# Altium integrated library Linear Technology Power Management LED Driver ICs.IntLib: 490 symbols (part 13 of 48)
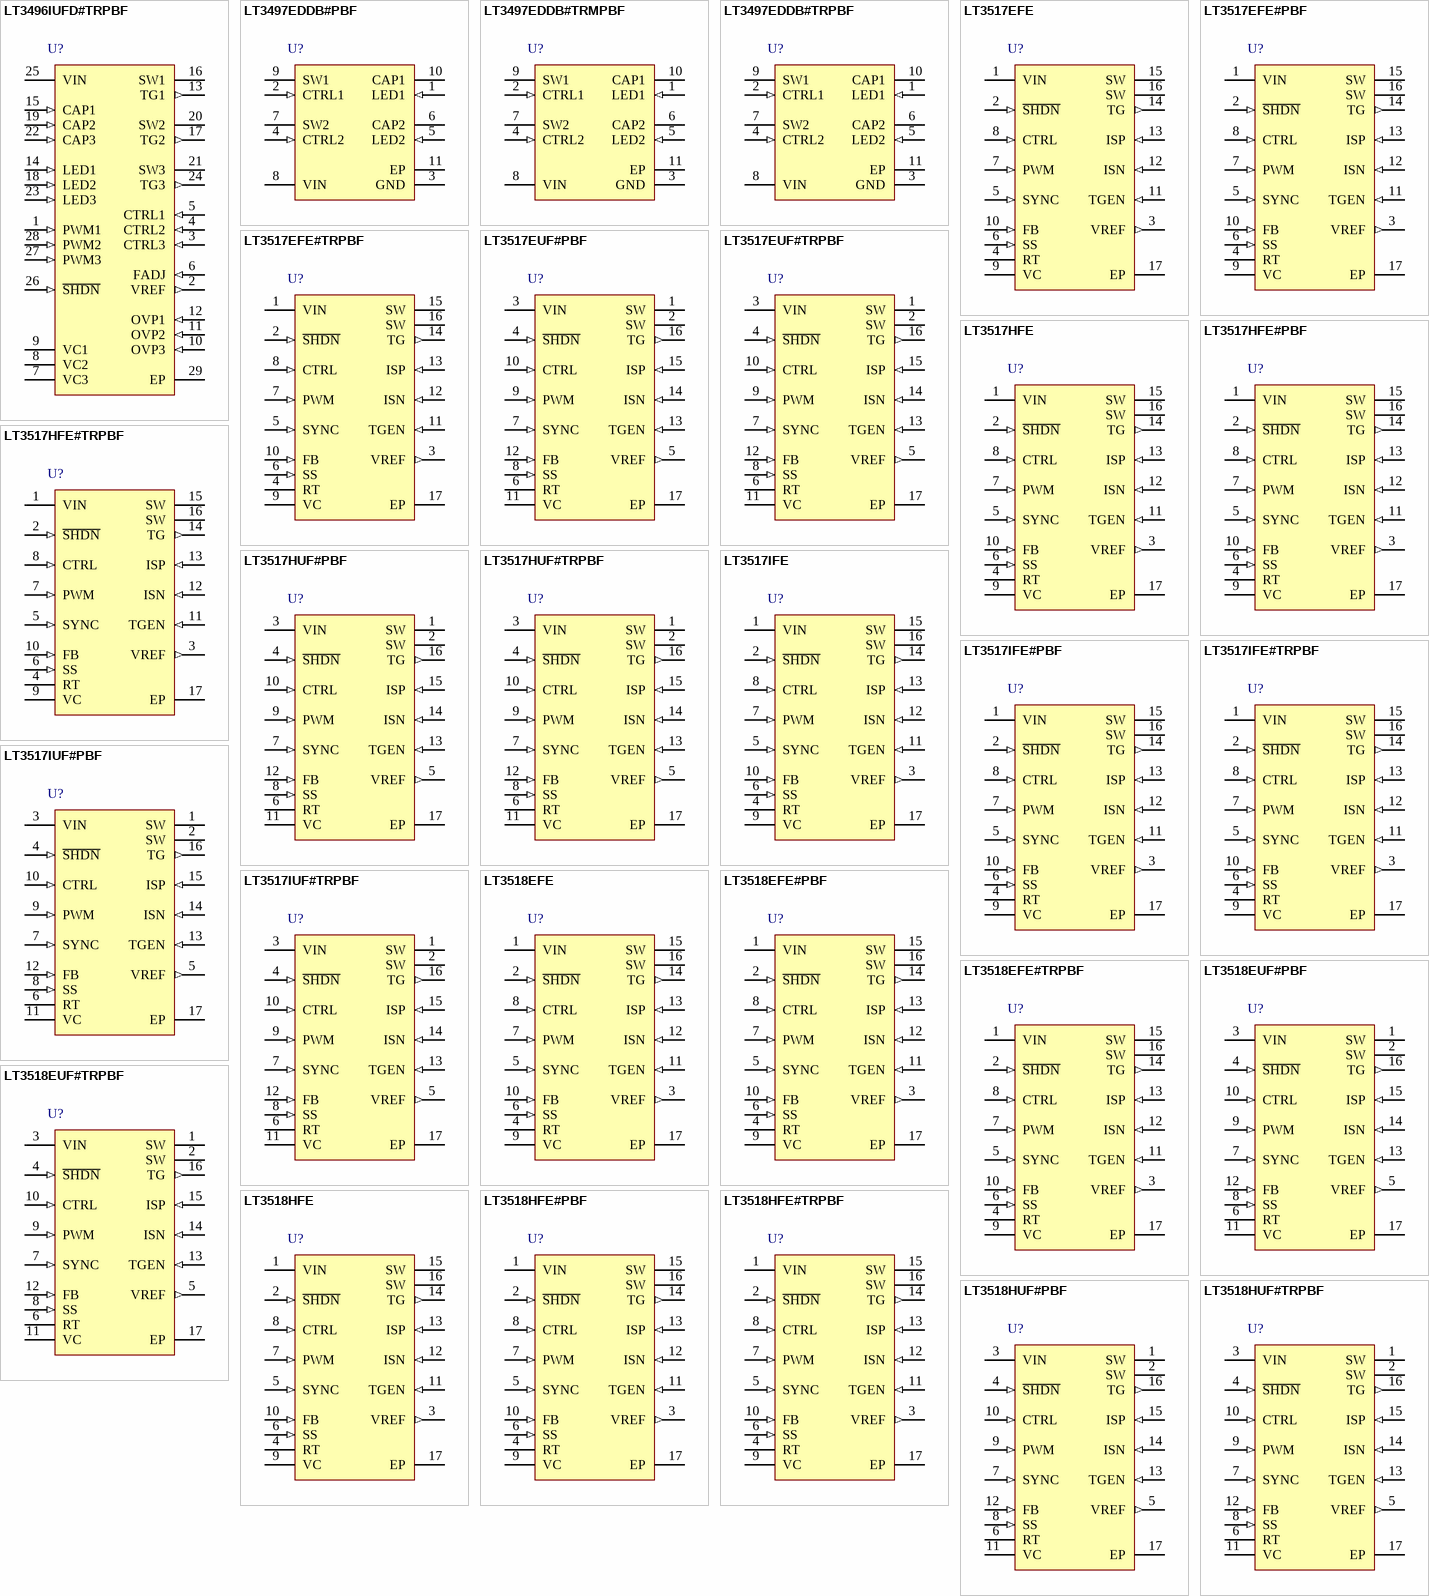
[diagram p32: symbols LT3496IUFD#TRPBF to LT3518HUF#TRPBF]

## LT3497EDDB#PBF
designator U?
Dual Full Function White LED Driver with Integrated Schottky Diode, 2.5 to 10 V Vin, 35 V Vout MAX, 10-pin SON (DDB10), -40 to 85 degC, Pb-Free; Manufacturer: Linear Technology; PartNumber: LT3497EDDB#PBF; Topology: Boost, LED Driver; Vin Min(V): 2.5; PackageVersion: Rev. Ø, 06/2010; PackageReference: DDB10; PackageDescription: 10-Pin Plastic DFN, Body 3 x 2 mm, Pitch 0.5 mm; Supplier 1: Farnell; Supplier Part Number 1: 2308211; Supplier 2: Newark; Supplier Part Number 2: 78T4022; RoHS: TRUE; Mounting Technology: Surface Mount; Code_JEDEC: MO-229; ComponentLink1Description: Manufacturer URL; ComponentLink1URL: http://www.linear.com/; ComponentLink2Description: Datasheet; ComponentLink2URL: http://cds.linear.com/docs/en/datasheet/3497f.pdf; ComponentLink3Description: Package Specification; ComponentLink3URL: http://cds.linear.com/docs/en/packaging/DFN_10_05-08-1722.pdf
footprint LT-DDB-10_V (SON, 10-Leads, Body 3x2mm, Pitch 0.5mm, Thermal Pad 2.39x0.64mm)
pins: 1 LED1 (in) "Connection point for the anode of the first LED of the first set of LEDs and the sense resistor (RSENSE1). The LED current can be programmed by: ILED1=200mV/RSENSE1.", 2 CTRL1 (in) "Dimming and Shutdown Pin. Connect CTRL1 below 50mV to disable converter 1. As the pin voltage is ramped from 0V to 1.5V, the LED current ramps from 0 to (ILED1 = 200mV/RSENSE1). The CTRL1 pin must not be left foating.", 3 GND (power) "Connect the GND pin to the PCB system ground plane.", 4 CTRL2 (in) "Dimming and Shutdown Pin. Connect CTRL2 below 50mV to disable converter 2. As the pin voltage is ramped from 0V to 1.5V, the LED current ramps from 0 to (ILED2 = 200mV/RSENSE2). The CTRL2 pin must not be left foating.", 5 LED2 (in) "Connection point for the anode of the first LED of the second set of LEDs and the sense resistor (RSENSE2). The LED current can be programmed by:ILED2=200mV/RSENSE2.", 6 CAP2 (power) "Output of Converter 2. This pin is connected to the cathode of internal Schottky diode 2. Connect the output capacitor to this pin and the sense resistor (RSENSE2) from this pin to LED2 pin.", 7 SW2 "Switch Pin. Minimize trace area at this pin to minimize EMI. Connect the inductor at this pin.", 8 VIN (power) "Input Supply Pin. This pin must be locally bypassed.", 9 SW1 "Switch Pin. Minimize trace area at this pin to minimize EMI. Connect the inductor at this pin.", 10 CAP1 (power) "Output of Converter 1. This pin is connected to the cathode of internal Schottky diode 1. Connect the output capacitor to this pin and the sense resistor (RSENSE1) from this pin to LED1 pin.", 11 EP (power) "Ground. Must be soldered to PCB."

## LT3497EDDB#TRMPBF
designator U?
Dual Full Function White LED Driver with Integrated Schottky Diode, 2.5 to 10 V Vin, 35 V Vout MAX, 10-pin SON (DDB10), -40 to 85 degC, Pb-Free, Mini Tape and Reel; Manufacturer: Linear Technology; PartNumber: LT3497EDDB#TRMPBF; Topology: Boost, LED Driver; Vin Min(V): 2.5; PackageVersion: Rev. Ø, 06/2010; PackageReference: DDB10; PackageDescription: 10-Pin Plastic DFN, Body 3 x 2 mm, Pitch 0.5 mm; Supplier 1: Digi-Key; Supplier Part Number 1: LT3497EDDB#TRMPBFTR-ND; Supplier 2: Digi-Key; Supplier Part Number 2: LT3497EDDB#TRMPBFCT-ND; Supplier 3: Digi-Key; Supplier Part Number 3: LT3497EDDB#TRMPBFDKR-ND; Supplier 4: Farnell; Supplier Part Number 4: 1715222; Supplier 5: Newark; Supplier Part Number 5: 88M1943; Packing: Mini Tape and Reel; RoHS: TRUE; Mounting Technology: Surface Mount; Code_JEDEC: MO-229; ComponentLink1Description: Manufacturer URL; ComponentLink1URL: http://www.linear.com/; ComponentLink2Description: Datasheet; ComponentLink2URL: http://cds.linear.com/docs/en/datasheet/3497f.pdf; ComponentLink3Description: Package Specification; ComponentLink3URL: http://cds.linear.com/docs/en/packaging/DFN_10_05-08-1722.pdf
footprint LT-DDB-10_V (SON, 10-Leads, Body 3x2mm, Pitch 0.5mm, Thermal Pad 2.39x0.64mm)
pins: 1 LED1 (in) "Connection point for the anode of the first LED of the first set of LEDs and the sense resistor (RSENSE1). The LED current can be programmed by: ILED1=200mV/RSENSE1.", 2 CTRL1 (in) "Dimming and Shutdown Pin. Connect CTRL1 below 50mV to disable converter 1. As the pin voltage is ramped from 0V to 1.5V, the LED current ramps from 0 to (ILED1 = 200mV/RSENSE1). The CTRL1 pin must not be left foating.", 3 GND (power) "Connect the GND pin to the PCB system ground plane.", 4 CTRL2 (in) "Dimming and Shutdown Pin. Connect CTRL2 below 50mV to disable converter 2. As the pin voltage is ramped from 0V to 1.5V, the LED current ramps from 0 to (ILED2 = 200mV/RSENSE2). The CTRL2 pin must not be left foating.", 5 LED2 (in) "Connection point for the anode of the first LED of the second set of LEDs and the sense resistor (RSENSE2). The LED current can be programmed by:ILED2=200mV/RSENSE2.", 6 CAP2 (power) "Output of Converter 2. This pin is connected to the cathode of internal Schottky diode 2. Connect the output capacitor to this pin and the sense resistor (RSENSE2) from this pin to LED2 pin.", 7 SW2 "Switch Pin. Minimize trace area at this pin to minimize EMI. Connect the inductor at this pin.", 8 VIN (power) "Input Supply Pin. This pin must be locally bypassed.", 9 SW1 "Switch Pin. Minimize trace area at this pin to minimize EMI. Connect the inductor at this pin.", 10 CAP1 (power) "Output of Converter 1. This pin is connected to the cathode of internal Schottky diode 1. Connect the output capacitor to this pin and the sense resistor (RSENSE1) from this pin to LED1 pin.", 11 EP (power) "Ground. Must be soldered to PCB."

## LT3497EDDB#TRPBF
designator U?
Dual Full Function White LED Driver with Integrated Schottky Diode, 2.5 to 10 V Vin, 35 V Vout MAX, 10-pin SON (DDB10), -40 to 85 degC, Pb-Free, Tape and Reel; Manufacturer: Linear Technology; PartNumber: LT3497EDDB#TRPBF; Topology: Boost, LED Driver; Vin Min(V): 2.5; PackageVersion: Rev. Ø, 06/2010; PackageReference: DDB10; PackageDescription: 10-Pin Plastic DFN, Body 3 x 2 mm, Pitch 0.5 mm; Supplier 1: Digi-Key; Supplier Part Number 1: LT3497EDDB#TRPBF-ND; Packing: Tape and Reel; RoHS: TRUE; Mounting Technology: Surface Mount; Code_JEDEC: MO-229; ComponentLink1Description: Manufacturer URL; ComponentLink1URL: http://www.linear.com/; ComponentLink2Description: Datasheet; ComponentLink2URL: http://cds.linear.com/docs/en/datasheet/3497f.pdf; ComponentLink3Description: Package Specification; ComponentLink3URL: http://cds.linear.com/docs/en/packaging/DFN_10_05-08-1722.pdf
footprint LT-DDB-10_V (SON, 10-Leads, Body 3x2mm, Pitch 0.5mm, Thermal Pad 2.39x0.64mm)
pins: 1 LED1 (in) "Connection point for the anode of the first LED of the first set of LEDs and the sense resistor (RSENSE1). The LED current can be programmed by: ILED1=200mV/RSENSE1.", 2 CTRL1 (in) "Dimming and Shutdown Pin. Connect CTRL1 below 50mV to disable converter 1. As the pin voltage is ramped from 0V to 1.5V, the LED current ramps from 0 to (ILED1 = 200mV/RSENSE1). The CTRL1 pin must not be left foating.", 3 GND (power) "Connect the GND pin to the PCB system ground plane.", 4 CTRL2 (in) "Dimming and Shutdown Pin. Connect CTRL2 below 50mV to disable converter 2. As the pin voltage is ramped from 0V to 1.5V, the LED current ramps from 0 to (ILED2 = 200mV/RSENSE2). The CTRL2 pin must not be left foating.", 5 LED2 (in) "Connection point for the anode of the first LED of the second set of LEDs and the sense resistor (RSENSE2). The LED current can be programmed by:ILED2=200mV/RSENSE2.", 6 CAP2 (power) "Output of Converter 2. This pin is connected to the cathode of internal Schottky diode 2. Connect the output capacitor to this pin and the sense resistor (RSENSE2) from this pin to LED2 pin.", 7 SW2 "Switch Pin. Minimize trace area at this pin to minimize EMI. Connect the inductor at this pin.", 8 VIN (power) "Input Supply Pin. This pin must be locally bypassed.", 9 SW1 "Switch Pin. Minimize trace area at this pin to minimize EMI. Connect the inductor at this pin.", 10 CAP1 (power) "Output of Converter 1. This pin is connected to the cathode of internal Schottky diode 1. Connect the output capacitor to this pin and the sense resistor (RSENSE1) from this pin to LED1 pin.", 11 EP (power) "Ground. Must be soldered to PCB."

## LT3517EFE
designator U?
Full-Featured LED Driver with 1.5 A Switch Current, 3 to 30 V Vin, 40 V Vout MAX, 16-pin SOP (FE-16-EPV-BA), -40 to 125 degC; Manufacturer: Linear Technology; PartNumber: LT3517EFE; Topology: Buck, Boost, Buck-Boost, LED Driver; Vin Min(V): 3; DatasheetVersion: Rev. G; PackageVersion: Rev. I, 05/2011; PackageReference: FE-16; PackageDescription: 16-Pin Plastic TSSOP, Body 5 x 4.4 mm, Pitch 0.65 mm; RoHS: FALSE; Mounting Technology: Surface Mount; ComponentLink1Description: Manufacturer URL; ComponentLink1URL: http://www.linear.com/; ComponentLink2Description: Datasheet; ComponentLink2URL: http://cds.linear.com/docs/en/datasheet/3517fg.pdf; ComponentLink3Description: Package Specification; ComponentLink3URL: http://cds.linear.com/docs/en/packaging/05081663_J_FE16(BA).pdf
footprint LT-FE-16-EPV-BA_N (SOP, 16-Leads, Body 5x4.4mm, Pitch 0.65mm, Thermal Pad 2.74x2.74mm, IPC Medium Density)
footprint LT-FE-16-EPV-BA_L (SOP, 16-Leads, Body 5x4.4mm, Pitch 0.65mm, Thermal Pad 2.74x2.74mm, IPC High Density)
footprint LT-FE-16-EPV-BA_M (SOP, 16-Leads, Body 5x4.4mm, Pitch 0.65mm, Thermal Pad 2.74x2.74mm, IPC Low Density)
pins: 1 VIN (power) "Input Supply Pin. Must be locally bypassed.", 2 ~{SHDN} (in) "Shutdown Pin. Tie to 1.5V or higher to enable device or 0.4V or less to disable device.", 3 VREF (out) "Reference Output Pin. This pin can supply up to 100uA.", 4 RT "Switching Frequency Adjustment Pin. Set switching frequency using a resistor to GND (see Typical Performance Characteristics for values). For SYNC function, choose the resistor to program a frequency 20% slower than the SYNC (See Datasheet)", 5 SYNC (in) "Frequency Synchronization Pin. Tie an external clock signal here. RT resistor should be chosen to program a switching frequency 20% slower than SYNC pulse frequency. Synchronization (power switch turn-on) occurs a fixed (See Datasheet)", 6 SS (in) "Soft-Start Pin. Place a soft-start capacitor here. Leave the pin open if not in use.", 7 PWM (in) "Pulse Width Modulated Input Pin. Signal low turns off channel, disables the main switch and makes the TG pin high. Tie the PWM pin to S\H\D\N\ pin if not used. There is an equivalent 50k resistor from PWM pin to ground (See Datasheet)", 8 CTRL (in) "LED Current Adjustment Pin. Sets voltage across sense resistor between ISP and ISN. Connect directly to VREF for full-scale threshold of 100mV, or use signal values between GND and 1V to modulate LED current. Tie the CTRL (See Datasheet)", 9 VC "gm Error Amplifier Output Pin. Stabilize the loop with an RC network or compensating C.", 10 FB (in) "Voltage Loop Feedback Pin. Works as overvoltage protection for LED drivers. If FB is higher than 1V, the main switch is turned off.", 11 TGEN (in) "Top Gate Enable Input Pin. Tie to 1.5V or higher to enable the PMOS driver function. Tie the TGEN pin to ground if TG function is not used. There is an equivalent 40k resistor from TGEN pin to ground internally.", 12 ISN (in) "Current Sense (-) Pin. The inverting input to the current sense amplifier.", 13 ISP (in) "Current Sense (+) Pin. The noninverting input to the current sense amplifier. Also serves as positive rail for TG pin driver.", 14 TG (out) "Top Gate Driver Output. An inverted PWM signal drives series PMOS device between VISP and (VISP - 7V). An internal 7V clamp protects the VISP PMOS gate. Leave TG unconnected if not used.", 15 SW (power) "Switch Pin. Minimize trace at this pin to reduce EMI.", 16 SW (power) "Switch Pin. Minimize trace at this pin to reduce EMI.", 17 EP (power) "Exposed Pad. Solder paddle directly to ground plane."

## LT3517EFE#PBF
designator U?
Full-Featured LED Driver with 1.5 A Switch Current, 3 to 30 V Vin, 40 V Vout MAX, 16-pin SOP (FE-16-EPV-BA), -40 to 125 degC, Pb-Free; Manufacturer: Linear Technology; PartNumber: LT3517EFE#PBF; Topology: Buck, Boost, Buck-Boost, LED Driver; Vin Min(V): 3; DatasheetVersion: Rev. G; PackageVersion: Rev. I, 05/2011; PackageReference: FE-16; PackageDescription: 16-Pin Plastic TSSOP, Body 5 x 4.4 mm, Pitch 0.65 mm; Supplier 1: Digi-Key; Supplier Part Number 1: LT3517EFE#PBF-ND; Supplier 2: Farnell; Supplier Part Number 2: 2293070; Supplier 3: Newark; Supplier Part Number 3: 75M4735; RoHS: TRUE; Mounting Technology: Surface Mount; ComponentLink1Description: Manufacturer URL; ComponentLink1URL: http://www.linear.com/; ComponentLink2Description: Datasheet; ComponentLink2URL: http://cds.linear.com/docs/en/datasheet/3517fg.pdf; ComponentLink3Description: Package Specification; ComponentLink3URL: http://cds.linear.com/docs/en/packaging/05081663_J_FE16(BA).pdf
footprint LT-FE-16-EPV-BA_N (SOP, 16-Leads, Body 5x4.4mm, Pitch 0.65mm, Thermal Pad 2.74x2.74mm, IPC Medium Density)
footprint LT-FE-16-EPV-BA_L (SOP, 16-Leads, Body 5x4.4mm, Pitch 0.65mm, Thermal Pad 2.74x2.74mm, IPC High Density)
footprint LT-FE-16-EPV-BA_M (SOP, 16-Leads, Body 5x4.4mm, Pitch 0.65mm, Thermal Pad 2.74x2.74mm, IPC Low Density)
pins: 1 VIN (power) "Input Supply Pin. Must be locally bypassed.", 2 ~{SHDN} (in) "Shutdown Pin. Tie to 1.5V or higher to enable device or 0.4V or less to disable device.", 3 VREF (out) "Reference Output Pin. This pin can supply up to 100uA.", 4 RT "Switching Frequency Adjustment Pin. Set switching frequency using a resistor to GND (see Typical Performance Characteristics for values). For SYNC function, choose the resistor to program a frequency 20% slower than the SYNC (See Datasheet)", 5 SYNC (in) "Frequency Synchronization Pin. Tie an external clock signal here. RT resistor should be chosen to program a switching frequency 20% slower than SYNC pulse frequency. Synchronization (power switch turn-on) occurs a fixed (See Datasheet)", 6 SS (in) "Soft-Start Pin. Place a soft-start capacitor here. Leave the pin open if not in use.", 7 PWM (in) "Pulse Width Modulated Input Pin. Signal low turns off channel, disables the main switch and makes the TG pin high. Tie the PWM pin to S\H\D\N\ pin if not used. There is an equivalent 50k resistor from PWM pin to ground (See Datasheet)", 8 CTRL (in) "LED Current Adjustment Pin. Sets voltage across sense resistor between ISP and ISN. Connect directly to VREF for full-scale threshold of 100mV, or use signal values between GND and 1V to modulate LED current. Tie the CTRL (See Datasheet)", 9 VC "gm Error Amplifier Output Pin. Stabilize the loop with an RC network or compensating C.", 10 FB (in) "Voltage Loop Feedback Pin. Works as overvoltage protection for LED drivers. If FB is higher than 1V, the main switch is turned off.", 11 TGEN (in) "Top Gate Enable Input Pin. Tie to 1.5V or higher to enable the PMOS driver function. Tie the TGEN pin to ground if TG function is not used. There is an equivalent 40k resistor from TGEN pin to ground internally.", 12 ISN (in) "Current Sense (-) Pin. The inverting input to the current sense amplifier.", 13 ISP (in) "Current Sense (+) Pin. The noninverting input to the current sense amplifier. Also serves as positive rail for TG pin driver.", 14 TG (out) "Top Gate Driver Output. An inverted PWM signal drives series PMOS device between VISP and (VISP - 7V). An internal 7V clamp protects the VISP PMOS gate. Leave TG unconnected if not used.", 15 SW (power) "Switch Pin. Minimize trace at this pin to reduce EMI.", 16 SW (power) "Switch Pin. Minimize trace at this pin to reduce EMI.", 17 EP (power) "Exposed Pad. Solder paddle directly to ground plane."

## LT3517EFE#TRPBF
designator U?
Full-Featured LED Driver with 1.5 A Switch Current, 3 to 30 V Vin, 40 V Vout MAX, 16-pin SOP (FE-16-EPV-BA), -40 to 125 degC, Pb-Free, Tape and Reel; Manufacturer: Linear Technology; PartNumber: LT3517EFE#TRPBF; Topology: Buck, Boost, Buck-Boost, LED Driver; Vin Min(V): 3; DatasheetVersion: Rev. G; PackageVersion: Rev. I, 05/2011; PackageReference: FE-16; PackageDescription: 16-Pin Plastic TSSOP, Body 5 x 4.4 mm, Pitch 0.65 mm; Supplier 1: Digi-Key; Supplier Part Number 1: LT3517EFE#TRPBF-ND; Packing: Tape and Reel; RoHS: TRUE; Mounting Technology: Surface Mount; ComponentLink1Description: Manufacturer URL; ComponentLink1URL: http://www.linear.com/; ComponentLink2Description: Datasheet; ComponentLink2URL: http://cds.linear.com/docs/en/datasheet/3517fg.pdf; ComponentLink3Description: Package Specification; ComponentLink3URL: http://cds.linear.com/docs/en/packaging/05081663_J_FE16(BA).pdf
footprint LT-FE-16-EPV-BA_N (SOP, 16-Leads, Body 5x4.4mm, Pitch 0.65mm, Thermal Pad 2.74x2.74mm, IPC Medium Density)
footprint LT-FE-16-EPV-BA_L (SOP, 16-Leads, Body 5x4.4mm, Pitch 0.65mm, Thermal Pad 2.74x2.74mm, IPC High Density)
footprint LT-FE-16-EPV-BA_M (SOP, 16-Leads, Body 5x4.4mm, Pitch 0.65mm, Thermal Pad 2.74x2.74mm, IPC Low Density)
pins: 1 VIN (power) "Input Supply Pin. Must be locally bypassed.", 2 ~{SHDN} (in) "Shutdown Pin. Tie to 1.5V or higher to enable device or 0.4V or less to disable device.", 3 VREF (out) "Reference Output Pin. This pin can supply up to 100uA.", 4 RT "Switching Frequency Adjustment Pin. Set switching frequency using a resistor to GND (see Typical Performance Characteristics for values). For SYNC function, choose the resistor to program a frequency 20% slower than the SYNC (See Datasheet)", 5 SYNC (in) "Frequency Synchronization Pin. Tie an external clock signal here. RT resistor should be chosen to program a switching frequency 20% slower than SYNC pulse frequency. Synchronization (power switch turn-on) occurs a fixed (See Datasheet)", 6 SS (in) "Soft-Start Pin. Place a soft-start capacitor here. Leave the pin open if not in use.", 7 PWM (in) "Pulse Width Modulated Input Pin. Signal low turns off channel, disables the main switch and makes the TG pin high. Tie the PWM pin to S\H\D\N\ pin if not used. There is an equivalent 50k resistor from PWM pin to ground (See Datasheet)", 8 CTRL (in) "LED Current Adjustment Pin. Sets voltage across sense resistor between ISP and ISN. Connect directly to VREF for full-scale threshold of 100mV, or use signal values between GND and 1V to modulate LED current. Tie the CTRL (See Datasheet)", 9 VC "gm Error Amplifier Output Pin. Stabilize the loop with an RC network or compensating C.", 10 FB (in) "Voltage Loop Feedback Pin. Works as overvoltage protection for LED drivers. If FB is higher than 1V, the main switch is turned off.", 11 TGEN (in) "Top Gate Enable Input Pin. Tie to 1.5V or higher to enable the PMOS driver function. Tie the TGEN pin to ground if TG function is not used. There is an equivalent 40k resistor from TGEN pin to ground internally.", 12 ISN (in) "Current Sense (-) Pin. The inverting input to the current sense amplifier.", 13 ISP (in) "Current Sense (+) Pin. The noninverting input to the current sense amplifier. Also serves as positive rail for TG pin driver.", 14 TG (out) "Top Gate Driver Output. An inverted PWM signal drives series PMOS device between VISP and (VISP - 7V). An internal 7V clamp protects the VISP PMOS gate. Leave TG unconnected if not used.", 15 SW (power) "Switch Pin. Minimize trace at this pin to reduce EMI.", 16 SW (power) "Switch Pin. Minimize trace at this pin to reduce EMI.", 17 EP (power) "Exposed Pad. Solder paddle directly to ground plane."

## LT3517EUF#PBF
designator U?
Full-Featured LED Driver with 1.5 A Switch Current, 3 to 30 V Vin, 40 V Vout MAX, 16-pin QFN (UF-16), -40 to 125 degC, Pb-Free; Manufacturer: Linear Technology; PartNumber: LT3517EUF#PBF; Topology: Buck, Boost, Buck-Boost, LED Driver; Vin Min(V): 3; DatasheetVersion: Rev. G; PackageVersion: Jun-10; PackageReference: UF-16; PackageDescription: 16-Pin Plastic QFN, Body 4 x 4 mm, Pitch 0.65 mm; Supplier 1: Digi-Key; Supplier Part Number 1: LT3517EUF#PBF-ND; Supplier 2: Newark; Supplier Part Number 2: 95M6557; RoHS: TRUE; Mounting Technology: Surface Mount; Code_JEDEC: MO-220; ComponentLink1Description: Manufacturer URL; ComponentLink1URL: http://www.linear.com/; ComponentLink2Description: Datasheet; ComponentLink2URL: http://cds.linear.com/docs/en/datasheet/3517fg.pdf; ComponentLink3Description: Package Specification; ComponentLink3URL: http://cds.linear.com/docs/en/packaging/QFN_16_05-08-1692.pdf
footprint LT-UF-16_N (QFN, 16-Leads, Body 4.1x4.1mm, Pitch 0.65mm, Thermal Pad 2.15x2.15mm, IPC Medium Density)
footprint LT-UF-16_L (QFN, 16-Leads, Body 4.1x4.1mm, Pitch 0.65mm, Thermal Pad 2.15x2.15mm, IPC High Density)
footprint LT-UF-16_M (QFN, 16-Leads, Body 4.1x4.1mm, Pitch 0.65mm, Thermal Pad 2.15x2.15mm, IPC Low Density)
pins: 1 SW (power) "Switch Pin. Minimize trace at this pin to reduce EMI.", 2 SW (power) "Switch Pin. Minimize trace at this pin to reduce EMI.", 3 VIN (power) "Input Supply Pin. Must be locally bypassed.", 4 ~{SHDN} (in) "Shutdown Pin. Tie to 1.5V or higher to enable device or 0.4V or less to disable device.", 5 VREF (out) "Reference Output Pin. This pin can supply up to 100uA.", 6 RT "Switching Frequency Adjustment Pin. Set switching frequency using a resistor to GND (see Typical Performance Characteristics for values). For SYNC function, choose the resistor to program a frequency 20% slower than the SYNC (See Datasheet)", 7 SYNC (in) "Frequency Synchronization Pin. Tie an external clock signal here. RT resistor should be chosen to program a switching frequency 20% slower than SYNC pulse frequency. Synchronization (power switch turn-on) occurs a fixed (See Datasheet)", 8 SS (in) "Soft-Start Pin. Place a soft-start capacitor here. Leave the pin open if not in use.", 9 PWM (in) "Pulse Width Modulated Input Pin. Signal low turns off channel, disables the main switch and makes the TG pin high. Tie the PWM pin to S\H\D\N\ pin if not used. There is an equivalent 50k resistor from PWM pin to ground (See Datasheet)", 10 CTRL (in) "LED Current Adjustment Pin. Sets voltage across sense resistor between ISP and ISN. Connect directly to VREF for full-scale threshold of 100mV, or use signal values between GND and 1V to modulate LED current. Tie the CTRL (See Datasheet)", 11 VC "gm Error Amplifier Output Pin. Stabilize the loop with an RC network or compensating C.", 12 FB (in) "Voltage Loop Feedback Pin. Works as overvoltage protection for LED drivers. If FB is higher than 1V, the main switch is turned off.", 13 TGEN (in) "Top Gate Enable Input Pin. Tie to 1.5V or higher to enable the PMOS driver function. Tie the TGEN pin to ground if TG function is not used. There is an equivalent 40k resistor from TGEN pin to ground internally.", 14 ISN (in) "Current Sense (-) Pin. The inverting input to the current sense amplifier.", 15 ISP (in) "Current Sense (+) Pin. The noninverting input to the current sense amplifier. Also serves as positive rail for TG pin driver.", 16 TG (out) "Top Gate Driver Output. An inverted PWM signal drives series PMOS device between VISP and (VISP - 7V). An internal 7V clamp protects the VISP PMOS gate. Leave TG unconnected if not used.", 17 EP (power) "Exposed Pad. Solder paddle directly to ground plane."

## LT3517EUF#TRPBF
designator U?
Full-Featured LED Driver with 1.5 A Switch Current, 3 to 30 V Vin, 40 V Vout MAX, 16-pin QFN (UF-16), -40 to 125 degC, Pb-Free, Tape and Reel; Manufacturer: Linear Technology; PartNumber: LT3517EUF#TRPBF; Topology: Buck, Boost, Buck-Boost, LED Driver; Vin Min(V): 3; DatasheetVersion: Rev. G; PackageVersion: Jun-10; PackageReference: UF-16; PackageDescription: 16-Pin Plastic QFN, Body 4 x 4 mm, Pitch 0.65 mm; Supplier 1: Digi-Key; Supplier Part Number 1: LT3517EUF#TRPBF-ND; Packing: Tape and Reel; RoHS: TRUE; Mounting Technology: Surface Mount; Code_JEDEC: MO-220; ComponentLink1Description: Manufacturer URL; ComponentLink1URL: http://www.linear.com/; ComponentLink2Description: Datasheet; ComponentLink2URL: http://cds.linear.com/docs/en/datasheet/3517fg.pdf; ComponentLink3Description: Package Specification; ComponentLink3URL: http://cds.linear.com/docs/en/packaging/QFN_16_05-08-1692.pdf
footprint LT-UF-16_N (QFN, 16-Leads, Body 4.1x4.1mm, Pitch 0.65mm, Thermal Pad 2.15x2.15mm, IPC Medium Density)
footprint LT-UF-16_L (QFN, 16-Leads, Body 4.1x4.1mm, Pitch 0.65mm, Thermal Pad 2.15x2.15mm, IPC High Density)
footprint LT-UF-16_M (QFN, 16-Leads, Body 4.1x4.1mm, Pitch 0.65mm, Thermal Pad 2.15x2.15mm, IPC Low Density)
pins: 1 SW (power) "Switch Pin. Minimize trace at this pin to reduce EMI.", 2 SW (power) "Switch Pin. Minimize trace at this pin to reduce EMI.", 3 VIN (power) "Input Supply Pin. Must be locally bypassed.", 4 ~{SHDN} (in) "Shutdown Pin. Tie to 1.5V or higher to enable device or 0.4V or less to disable device.", 5 VREF (out) "Reference Output Pin. This pin can supply up to 100uA.", 6 RT "Switching Frequency Adjustment Pin. Set switching frequency using a resistor to GND (see Typical Performance Characteristics for values). For SYNC function, choose the resistor to program a frequency 20% slower than the SYNC (See Datasheet)", 7 SYNC (in) "Frequency Synchronization Pin. Tie an external clock signal here. RT resistor should be chosen to program a switching frequency 20% slower than SYNC pulse frequency. Synchronization (power switch turn-on) occurs a fixed (See Datasheet)", 8 SS (in) "Soft-Start Pin. Place a soft-start capacitor here. Leave the pin open if not in use.", 9 PWM (in) "Pulse Width Modulated Input Pin. Signal low turns off channel, disables the main switch and makes the TG pin high. Tie the PWM pin to S\H\D\N\ pin if not used. There is an equivalent 50k resistor from PWM pin to ground (See Datasheet)", 10 CTRL (in) "LED Current Adjustment Pin. Sets voltage across sense resistor between ISP and ISN. Connect directly to VREF for full-scale threshold of 100mV, or use signal values between GND and 1V to modulate LED current. Tie the CTRL (See Datasheet)", 11 VC "gm Error Amplifier Output Pin. Stabilize the loop with an RC network or compensating C.", 12 FB (in) "Voltage Loop Feedback Pin. Works as overvoltage protection for LED drivers. If FB is higher than 1V, the main switch is turned off.", 13 TGEN (in) "Top Gate Enable Input Pin. Tie to 1.5V or higher to enable the PMOS driver function. Tie the TGEN pin to ground if TG function is not used. There is an equivalent 40k resistor from TGEN pin to ground internally.", 14 ISN (in) "Current Sense (-) Pin. The inverting input to the current sense amplifier.", 15 ISP (in) "Current Sense (+) Pin. The noninverting input to the current sense amplifier. Also serves as positive rail for TG pin driver.", 16 TG (out) "Top Gate Driver Output. An inverted PWM signal drives series PMOS device between VISP and (VISP - 7V). An internal 7V clamp protects the VISP PMOS gate. Leave TG unconnected if not used.", 17 EP (power) "Exposed Pad. Solder paddle directly to ground plane."

## LT3517HFE
designator U?
Full-Featured LED Driver with 1.5 A Switch Current, 3 to 30 V Vin, 40 V Vout MAX, 16-pin SOP (FE-16-EPV-BA), -40 to 150 degC; Manufacturer: Linear Technology; PartNumber: LT3517HFE; Topology: Buck, Boost, Buck-Boost, LED Driver; Vin Min(V): 3; DatasheetVersion: Rev. G; PackageVersion: Rev. I, 05/2011; PackageReference: FE-16; PackageDescription: 16-Pin Plastic TSSOP, Body 5 x 4.4 mm, Pitch 0.65 mm; RoHS: FALSE; Mounting Technology: Surface Mount; ComponentLink1Description: Manufacturer URL; ComponentLink1URL: http://www.linear.com/; ComponentLink2Description: Datasheet; ComponentLink2URL: http://cds.linear.com/docs/en/datasheet/3517fg.pdf; ComponentLink3Description: Package Specification; ComponentLink3URL: http://cds.linear.com/docs/en/packaging/05081663_J_FE16(BA).pdf
footprint LT-FE-16-EPV-BA_N (SOP, 16-Leads, Body 5x4.4mm, Pitch 0.65mm, Thermal Pad 2.74x2.74mm, IPC Medium Density)
footprint LT-FE-16-EPV-BA_L (SOP, 16-Leads, Body 5x4.4mm, Pitch 0.65mm, Thermal Pad 2.74x2.74mm, IPC High Density)
footprint LT-FE-16-EPV-BA_M (SOP, 16-Leads, Body 5x4.4mm, Pitch 0.65mm, Thermal Pad 2.74x2.74mm, IPC Low Density)
pins: 1 VIN (power) "Input Supply Pin. Must be locally bypassed.", 2 ~{SHDN} (in) "Shutdown Pin. Tie to 1.5V or higher to enable device or 0.4V or less to disable device.", 3 VREF (out) "Reference Output Pin. This pin can supply up to 100uA.", 4 RT "Switching Frequency Adjustment Pin. Set switching frequency using a resistor to GND (see Typical Performance Characteristics for values). For SYNC function, choose the resistor to program a frequency 20% slower than the SYNC (See Datasheet)", 5 SYNC (in) "Frequency Synchronization Pin. Tie an external clock signal here. RT resistor should be chosen to program a switching frequency 20% slower than SYNC pulse frequency. Synchronization (power switch turn-on) occurs a fixed (See Datasheet)", 6 SS (in) "Soft-Start Pin. Place a soft-start capacitor here. Leave the pin open if not in use.", 7 PWM (in) "Pulse Width Modulated Input Pin. Signal low turns off channel, disables the main switch and makes the TG pin high. Tie the PWM pin to S\H\D\N\ pin if not used. There is an equivalent 50k resistor from PWM pin to ground (See Datasheet)", 8 CTRL (in) "LED Current Adjustment Pin. Sets voltage across sense resistor between ISP and ISN. Connect directly to VREF for full-scale threshold of 100mV, or use signal values between GND and 1V to modulate LED current. Tie the CTRL (See Datasheet)", 9 VC "gm Error Amplifier Output Pin. Stabilize the loop with an RC network or compensating C.", 10 FB (in) "Voltage Loop Feedback Pin. Works as overvoltage protection for LED drivers. If FB is higher than 1V, the main switch is turned off.", 11 TGEN (in) "Top Gate Enable Input Pin. Tie to 1.5V or higher to enable the PMOS driver function. Tie the TGEN pin to ground if TG function is not used. There is an equivalent 40k resistor from TGEN pin to ground internally.", 12 ISN (in) "Current Sense (-) Pin. The inverting input to the current sense amplifier.", 13 ISP (in) "Current Sense (+) Pin. The noninverting input to the current sense amplifier. Also serves as positive rail for TG pin driver.", 14 TG (out) "Top Gate Driver Output. An inverted PWM signal drives series PMOS device between VISP and (VISP - 7V). An internal 7V clamp protects the VISP PMOS gate. Leave TG unconnected if not used.", 15 SW (power) "Switch Pin. Minimize trace at this pin to reduce EMI.", 16 SW (power) "Switch Pin. Minimize trace at this pin to reduce EMI.", 17 EP (power) "Exposed Pad. Solder paddle directly to ground plane."

## LT3517HFE#PBF
designator U?
Full-Featured LED Driver with 1.5 A Switch Current, 3 to 30 V Vin, 40 V Vout MAX, 16-pin SOP (FE-16-EPV-BA), -40 to 150 degC, Pb-Free; Manufacturer: Linear Technology; PartNumber: LT3517HFE#PBF; Topology: Buck, Boost, Buck-Boost, LED Driver; Vin Min(V): 3; DatasheetVersion: Rev. G; PackageVersion: Rev. I, 05/2011; PackageReference: FE-16; PackageDescription: 16-Pin Plastic TSSOP, Body 5 x 4.4 mm, Pitch 0.65 mm; Supplier 1: Digi-Key; Supplier Part Number 1: LT3517HFE#PBF-ND; RoHS: TRUE; Mounting Technology: Surface Mount; ComponentLink1Description: Manufacturer URL; ComponentLink1URL: http://www.linear.com/; ComponentLink2Description: Datasheet; ComponentLink2URL: http://cds.linear.com/docs/en/datasheet/3517fg.pdf; ComponentLink3Description: Package Specification; ComponentLink3URL: http://cds.linear.com/docs/en/packaging/05081663_J_FE16(BA).pdf
footprint LT-FE-16-EPV-BA_N (SOP, 16-Leads, Body 5x4.4mm, Pitch 0.65mm, Thermal Pad 2.74x2.74mm, IPC Medium Density)
footprint LT-FE-16-EPV-BA_L (SOP, 16-Leads, Body 5x4.4mm, Pitch 0.65mm, Thermal Pad 2.74x2.74mm, IPC High Density)
footprint LT-FE-16-EPV-BA_M (SOP, 16-Leads, Body 5x4.4mm, Pitch 0.65mm, Thermal Pad 2.74x2.74mm, IPC Low Density)
pins: 1 VIN (power) "Input Supply Pin. Must be locally bypassed.", 2 ~{SHDN} (in) "Shutdown Pin. Tie to 1.5V or higher to enable device or 0.4V or less to disable device.", 3 VREF (out) "Reference Output Pin. This pin can supply up to 100uA.", 4 RT "Switching Frequency Adjustment Pin. Set switching frequency using a resistor to GND (see Typical Performance Characteristics for values). For SYNC function, choose the resistor to program a frequency 20% slower than the SYNC (See Datasheet)", 5 SYNC (in) "Frequency Synchronization Pin. Tie an external clock signal here. RT resistor should be chosen to program a switching frequency 20% slower than SYNC pulse frequency. Synchronization (power switch turn-on) occurs a fixed (See Datasheet)", 6 SS (in) "Soft-Start Pin. Place a soft-start capacitor here. Leave the pin open if not in use.", 7 PWM (in) "Pulse Width Modulated Input Pin. Signal low turns off channel, disables the main switch and makes the TG pin high. Tie the PWM pin to S\H\D\N\ pin if not used. There is an equivalent 50k resistor from PWM pin to ground (See Datasheet)", 8 CTRL (in) "LED Current Adjustment Pin. Sets voltage across sense resistor between ISP and ISN. Connect directly to VREF for full-scale threshold of 100mV, or use signal values between GND and 1V to modulate LED current. Tie the CTRL (See Datasheet)", 9 VC "gm Error Amplifier Output Pin. Stabilize the loop with an RC network or compensating C.", 10 FB (in) "Voltage Loop Feedback Pin. Works as overvoltage protection for LED drivers. If FB is higher than 1V, the main switch is turned off.", 11 TGEN (in) "Top Gate Enable Input Pin. Tie to 1.5V or higher to enable the PMOS driver function. Tie the TGEN pin to ground if TG function is not used. There is an equivalent 40k resistor from TGEN pin to ground internally.", 12 ISN (in) "Current Sense (-) Pin. The inverting input to the current sense amplifier.", 13 ISP (in) "Current Sense (+) Pin. The noninverting input to the current sense amplifier. Also serves as positive rail for TG pin driver.", 14 TG (out) "Top Gate Driver Output. An inverted PWM signal drives series PMOS device between VISP and (VISP - 7V). An internal 7V clamp protects the VISP PMOS gate. Leave TG unconnected if not used.", 15 SW (power) "Switch Pin. Minimize trace at this pin to reduce EMI.", 16 SW (power) "Switch Pin. Minimize trace at this pin to reduce EMI.", 17 EP (power) "Exposed Pad. Solder paddle directly to ground plane."

## LT3517HFE#TRPBF
designator U?
Full-Featured LED Driver with 1.5 A Switch Current, 3 to 30 V Vin, 40 V Vout MAX, 16-pin SOP (FE-16-EPV-BA), -40 to 150 degC, Pb-Free, Tape and Reel; Manufacturer: Linear Technology; PartNumber: LT3517HFE#TRPBF; Topology: Buck, Boost, Buck-Boost, LED Driver; Vin Min(V): 3; DatasheetVersion: Rev. G; PackageVersion: Rev. I, 05/2011; PackageReference: FE-16; PackageDescription: 16-Pin Plastic TSSOP, Body 5 x 4.4 mm, Pitch 0.65 mm; Supplier 1: Digi-Key; Supplier Part Number 1: LT3517HFE#TRPBF-ND; Packing: Tape and Reel; RoHS: TRUE; Mounting Technology: Surface Mount; ComponentLink1Description: Manufacturer URL; ComponentLink1URL: http://www.linear.com/; ComponentLink2Description: Datasheet; ComponentLink2URL: http://cds.linear.com/docs/en/datasheet/3517fg.pdf; ComponentLink3Description: Package Specification; ComponentLink3URL: http://cds.linear.com/docs/en/packaging/05081663_J_FE16(BA).pdf
footprint LT-FE-16-EPV-BA_N (SOP, 16-Leads, Body 5x4.4mm, Pitch 0.65mm, Thermal Pad 2.74x2.74mm, IPC Medium Density)
footprint LT-FE-16-EPV-BA_L (SOP, 16-Leads, Body 5x4.4mm, Pitch 0.65mm, Thermal Pad 2.74x2.74mm, IPC High Density)
footprint LT-FE-16-EPV-BA_M (SOP, 16-Leads, Body 5x4.4mm, Pitch 0.65mm, Thermal Pad 2.74x2.74mm, IPC Low Density)
pins: 1 VIN (power) "Input Supply Pin. Must be locally bypassed.", 2 ~{SHDN} (in) "Shutdown Pin. Tie to 1.5V or higher to enable device or 0.4V or less to disable device.", 3 VREF (out) "Reference Output Pin. This pin can supply up to 100uA.", 4 RT "Switching Frequency Adjustment Pin. Set switching frequency using a resistor to GND (see Typical Performance Characteristics for values). For SYNC function, choose the resistor to program a frequency 20% slower than the SYNC (See Datasheet)", 5 SYNC (in) "Frequency Synchronization Pin. Tie an external clock signal here. RT resistor should be chosen to program a switching frequency 20% slower than SYNC pulse frequency. Synchronization (power switch turn-on) occurs a fixed (See Datasheet)", 6 SS (in) "Soft-Start Pin. Place a soft-start capacitor here. Leave the pin open if not in use.", 7 PWM (in) "Pulse Width Modulated Input Pin. Signal low turns off channel, disables the main switch and makes the TG pin high. Tie the PWM pin to S\H\D\N\ pin if not used. There is an equivalent 50k resistor from PWM pin to ground (See Datasheet)", 8 CTRL (in) "LED Current Adjustment Pin. Sets voltage across sense resistor between ISP and ISN. Connect directly to VREF for full-scale threshold of 100mV, or use signal values between GND and 1V to modulate LED current. Tie the CTRL (See Datasheet)", 9 VC "gm Error Amplifier Output Pin. Stabilize the loop with an RC network or compensating C.", 10 FB (in) "Voltage Loop Feedback Pin. Works as overvoltage protection for LED drivers. If FB is higher than 1V, the main switch is turned off.", 11 TGEN (in) "Top Gate Enable Input Pin. Tie to 1.5V or higher to enable the PMOS driver function. Tie the TGEN pin to ground if TG function is not used. There is an equivalent 40k resistor from TGEN pin to ground internally.", 12 ISN (in) "Current Sense (-) Pin. The inverting input to the current sense amplifier.", 13 ISP (in) "Current Sense (+) Pin. The noninverting input to the current sense amplifier. Also serves as positive rail for TG pin driver.", 14 TG (out) "Top Gate Driver Output. An inverted PWM signal drives series PMOS device between VISP and (VISP - 7V). An internal 7V clamp protects the VISP PMOS gate. Leave TG unconnected if not used.", 15 SW (power) "Switch Pin. Minimize trace at this pin to reduce EMI.", 16 SW (power) "Switch Pin. Minimize trace at this pin to reduce EMI.", 17 EP (power) "Exposed Pad. Solder paddle directly to ground plane."

## LT3517HUF#PBF
designator U?
Full-Featured LED Driver with 1.5 A Switch Current, 3 to 30 V Vin, 40 V Vout MAX, 16-pin QFN (UF-16), -40 to 150 degC, Pb-Free; Manufacturer: Linear Technology; PartNumber: LT3517HUF#PBF; Topology: Buck, Boost, Buck-Boost, LED Driver; Vin Min(V): 3; DatasheetVersion: Rev. G; PackageVersion: Jun-10; PackageReference: UF-16; PackageDescription: 16-Pin Plastic QFN, Body 4 x 4 mm, Pitch 0.65 mm; Supplier 1: Digi-Key; Supplier Part Number 1: LT3517HUF#PBF-ND; Supplier 2: Farnell; Supplier Part Number 2: 1799837; Supplier 3: Newark; Supplier Part Number 3: 70R5708; RoHS: TRUE; Mounting Technology: Surface Mount; Code_JEDEC: MO-220; ComponentLink1Description: Manufacturer URL; ComponentLink1URL: http://www.linear.com/; ComponentLink2Description: Datasheet; ComponentLink2URL: http://cds.linear.com/docs/en/datasheet/3517fg.pdf; ComponentLink3Description: Package Specification; ComponentLink3URL: http://cds.linear.com/docs/en/packaging/QFN_16_05-08-1692.pdf
footprint LT-UF-16_N (QFN, 16-Leads, Body 4.1x4.1mm, Pitch 0.65mm, Thermal Pad 2.15x2.15mm, IPC Medium Density)
footprint LT-UF-16_L (QFN, 16-Leads, Body 4.1x4.1mm, Pitch 0.65mm, Thermal Pad 2.15x2.15mm, IPC High Density)
footprint LT-UF-16_M (QFN, 16-Leads, Body 4.1x4.1mm, Pitch 0.65mm, Thermal Pad 2.15x2.15mm, IPC Low Density)
pins: 1 SW (power) "Switch Pin. Minimize trace at this pin to reduce EMI.", 2 SW (power) "Switch Pin. Minimize trace at this pin to reduce EMI.", 3 VIN (power) "Input Supply Pin. Must be locally bypassed.", 4 ~{SHDN} (in) "Shutdown Pin. Tie to 1.5V or higher to enable device or 0.4V or less to disable device.", 5 VREF (out) "Reference Output Pin. This pin can supply up to 100uA.", 6 RT "Switching Frequency Adjustment Pin. Set switching frequency using a resistor to GND (see Typical Performance Characteristics for values). For SYNC function, choose the resistor to program a frequency 20% slower than the SYNC (See Datasheet)", 7 SYNC (in) "Frequency Synchronization Pin. Tie an external clock signal here. RT resistor should be chosen to program a switching frequency 20% slower than SYNC pulse frequency. Synchronization (power switch turn-on) occurs a fixed (See Datasheet)", 8 SS (in) "Soft-Start Pin. Place a soft-start capacitor here. Leave the pin open if not in use.", 9 PWM (in) "Pulse Width Modulated Input Pin. Signal low turns off channel, disables the main switch and makes the TG pin high. Tie the PWM pin to S\H\D\N\ pin if not used. There is an equivalent 50k resistor from PWM pin to ground (See Datasheet)", 10 CTRL (in) "LED Current Adjustment Pin. Sets voltage across sense resistor between ISP and ISN. Connect directly to VREF for full-scale threshold of 100mV, or use signal values between GND and 1V to modulate LED current. Tie the CTRL (See Datasheet)", 11 VC "gm Error Amplifier Output Pin. Stabilize the loop with an RC network or compensating C.", 12 FB (in) "Voltage Loop Feedback Pin. Works as overvoltage protection for LED drivers. If FB is higher than 1V, the main switch is turned off.", 13 TGEN (in) "Top Gate Enable Input Pin. Tie to 1.5V or higher to enable the PMOS driver function. Tie the TGEN pin to ground if TG function is not used. There is an equivalent 40k resistor from TGEN pin to ground internally.", 14 ISN (in) "Current Sense (-) Pin. The inverting input to the current sense amplifier.", 15 ISP (in) "Current Sense (+) Pin. The noninverting input to the current sense amplifier. Also serves as positive rail for TG pin driver.", 16 TG (out) "Top Gate Driver Output. An inverted PWM signal drives series PMOS device between VISP and (VISP - 7V). An internal 7V clamp protects the VISP PMOS gate. Leave TG unconnected if not used.", 17 EP (power) "Exposed Pad. Solder paddle directly to ground plane."

## LT3517HUF#TRPBF
designator U?
Full-Featured LED Driver with 1.5 A Switch Current, 3 to 30 V Vin, 40 V Vout MAX, 16-pin QFN (UF-16), -40 to 150 degC, Pb-Free, Tape and Reel; Manufacturer: Linear Technology; PartNumber: LT3517HUF#TRPBF; Topology: Buck, Boost, Buck-Boost, LED Driver; Vin Min(V): 3; DatasheetVersion: Rev. G; PackageVersion: Jun-10; PackageReference: UF-16; PackageDescription: 16-Pin Plastic QFN, Body 4 x 4 mm, Pitch 0.65 mm; Supplier 1: Digi-Key; Supplier Part Number 1: LT3517HUF#TRPBF-ND; Packing: Tape and Reel; RoHS: TRUE; Mounting Technology: Surface Mount; Code_JEDEC: MO-220; ComponentLink1Description: Manufacturer URL; ComponentLink1URL: http://www.linear.com/; ComponentLink2Description: Datasheet; ComponentLink2URL: http://cds.linear.com/docs/en/datasheet/3517fg.pdf; ComponentLink3Description: Package Specification; ComponentLink3URL: http://cds.linear.com/docs/en/packaging/QFN_16_05-08-1692.pdf
footprint LT-UF-16_N (QFN, 16-Leads, Body 4.1x4.1mm, Pitch 0.65mm, Thermal Pad 2.15x2.15mm, IPC Medium Density)
footprint LT-UF-16_L (QFN, 16-Leads, Body 4.1x4.1mm, Pitch 0.65mm, Thermal Pad 2.15x2.15mm, IPC High Density)
footprint LT-UF-16_M (QFN, 16-Leads, Body 4.1x4.1mm, Pitch 0.65mm, Thermal Pad 2.15x2.15mm, IPC Low Density)
pins: 1 SW (power) "Switch Pin. Minimize trace at this pin to reduce EMI.", 2 SW (power) "Switch Pin. Minimize trace at this pin to reduce EMI.", 3 VIN (power) "Input Supply Pin. Must be locally bypassed.", 4 ~{SHDN} (in) "Shutdown Pin. Tie to 1.5V or higher to enable device or 0.4V or less to disable device.", 5 VREF (out) "Reference Output Pin. This pin can supply up to 100uA.", 6 RT "Switching Frequency Adjustment Pin. Set switching frequency using a resistor to GND (see Typical Performance Characteristics for values). For SYNC function, choose the resistor to program a frequency 20% slower than the SYNC (See Datasheet)", 7 SYNC (in) "Frequency Synchronization Pin. Tie an external clock signal here. RT resistor should be chosen to program a switching frequency 20% slower than SYNC pulse frequency. Synchronization (power switch turn-on) occurs a fixed (See Datasheet)", 8 SS (in) "Soft-Start Pin. Place a soft-start capacitor here. Leave the pin open if not in use.", 9 PWM (in) "Pulse Width Modulated Input Pin. Signal low turns off channel, disables the main switch and makes the TG pin high. Tie the PWM pin to S\H\D\N\ pin if not used. There is an equivalent 50k resistor from PWM pin to ground (See Datasheet)", 10 CTRL (in) "LED Current Adjustment Pin. Sets voltage across sense resistor between ISP and ISN. Connect directly to VREF for full-scale threshold of 100mV, or use signal values between GND and 1V to modulate LED current. Tie the CTRL (See Datasheet)", 11 VC "gm Error Amplifier Output Pin. Stabilize the loop with an RC network or compensating C.", 12 FB (in) "Voltage Loop Feedback Pin. Works as overvoltage protection for LED drivers. If FB is higher than 1V, the main switch is turned off.", 13 TGEN (in) "Top Gate Enable Input Pin. Tie to 1.5V or higher to enable the PMOS driver function. Tie the TGEN pin to ground if TG function is not used. There is an equivalent 40k resistor from TGEN pin to ground internally.", 14 ISN (in) "Current Sense (-) Pin. The inverting input to the current sense amplifier.", 15 ISP (in) "Current Sense (+) Pin. The noninverting input to the current sense amplifier. Also serves as positive rail for TG pin driver.", 16 TG (out) "Top Gate Driver Output. An inverted PWM signal drives series PMOS device between VISP and (VISP - 7V). An internal 7V clamp protects the VISP PMOS gate. Leave TG unconnected if not used.", 17 EP (power) "Exposed Pad. Solder paddle directly to ground plane."

## LT3517IFE
designator U?
Full-Featured LED Driver with 1.5 A Switch Current, 3 to 30 V Vin, 40 V Vout MAX, 16-pin SOP (FE-16-EPV-BA), -40 to 125 degC; Manufacturer: Linear Technology; PartNumber: LT3517IFE; Topology: Buck, Boost, Buck-Boost, LED Driver; Vin Min(V): 3; DatasheetVersion: Rev. G; PackageVersion: Rev. I, 05/2011; PackageReference: FE-16; PackageDescription: 16-Pin Plastic TSSOP, Body 5 x 4.4 mm, Pitch 0.65 mm; RoHS: FALSE; Mounting Technology: Surface Mount; ComponentLink1Description: Manufacturer URL; ComponentLink1URL: http://www.linear.com/; ComponentLink2Description: Datasheet; ComponentLink2URL: http://cds.linear.com/docs/en/datasheet/3517fg.pdf; ComponentLink3Description: Package Specification; ComponentLink3URL: http://cds.linear.com/docs/en/packaging/05081663_J_FE16(BA).pdf
footprint LT-FE-16-EPV-BA_N (SOP, 16-Leads, Body 5x4.4mm, Pitch 0.65mm, Thermal Pad 2.74x2.74mm, IPC Medium Density)
footprint LT-FE-16-EPV-BA_L (SOP, 16-Leads, Body 5x4.4mm, Pitch 0.65mm, Thermal Pad 2.74x2.74mm, IPC High Density)
footprint LT-FE-16-EPV-BA_M (SOP, 16-Leads, Body 5x4.4mm, Pitch 0.65mm, Thermal Pad 2.74x2.74mm, IPC Low Density)
pins: 1 VIN (power) "Input Supply Pin. Must be locally bypassed.", 2 ~{SHDN} (in) "Shutdown Pin. Tie to 1.5V or higher to enable device or 0.4V or less to disable device.", 3 VREF (out) "Reference Output Pin. This pin can supply up to 100uA.", 4 RT "Switching Frequency Adjustment Pin. Set switching frequency using a resistor to GND (see Typical Performance Characteristics for values). For SYNC function, choose the resistor to program a frequency 20% slower than the SYNC (See Datasheet)", 5 SYNC (in) "Frequency Synchronization Pin. Tie an external clock signal here. RT resistor should be chosen to program a switching frequency 20% slower than SYNC pulse frequency. Synchronization (power switch turn-on) occurs a fixed (See Datasheet)", 6 SS (in) "Soft-Start Pin. Place a soft-start capacitor here. Leave the pin open if not in use.", 7 PWM (in) "Pulse Width Modulated Input Pin. Signal low turns off channel, disables the main switch and makes the TG pin high. Tie the PWM pin to S\H\D\N\ pin if not used. There is an equivalent 50k resistor from PWM pin to ground (See Datasheet)", 8 CTRL (in) "LED Current Adjustment Pin. Sets voltage across sense resistor between ISP and ISN. Connect directly to VREF for full-scale threshold of 100mV, or use signal values between GND and 1V to modulate LED current. Tie the CTRL (See Datasheet)", 9 VC "gm Error Amplifier Output Pin. Stabilize the loop with an RC network or compensating C.", 10 FB (in) "Voltage Loop Feedback Pin. Works as overvoltage protection for LED drivers. If FB is higher than 1V, the main switch is turned off.", 11 TGEN (in) "Top Gate Enable Input Pin. Tie to 1.5V or higher to enable the PMOS driver function. Tie the TGEN pin to ground if TG function is not used. There is an equivalent 40k resistor from TGEN pin to ground internally.", 12 ISN (in) "Current Sense (-) Pin. The inverting input to the current sense amplifier.", 13 ISP (in) "Current Sense (+) Pin. The noninverting input to the current sense amplifier. Also serves as positive rail for TG pin driver.", 14 TG (out) "Top Gate Driver Output. An inverted PWM signal drives series PMOS device between VISP and (VISP - 7V). An internal 7V clamp protects the VISP PMOS gate. Leave TG unconnected if not used.", 15 SW (power) "Switch Pin. Minimize trace at this pin to reduce EMI.", 16 SW (power) "Switch Pin. Minimize trace at this pin to reduce EMI.", 17 EP (power) "Exposed Pad. Solder paddle directly to ground plane."